# Altium schematic symbol library LAUNCHXL-F28379D_REV2.0.SCHLIB: 46 symbols
Pins are listed as number, name and electrical type; pins without a type are passive.

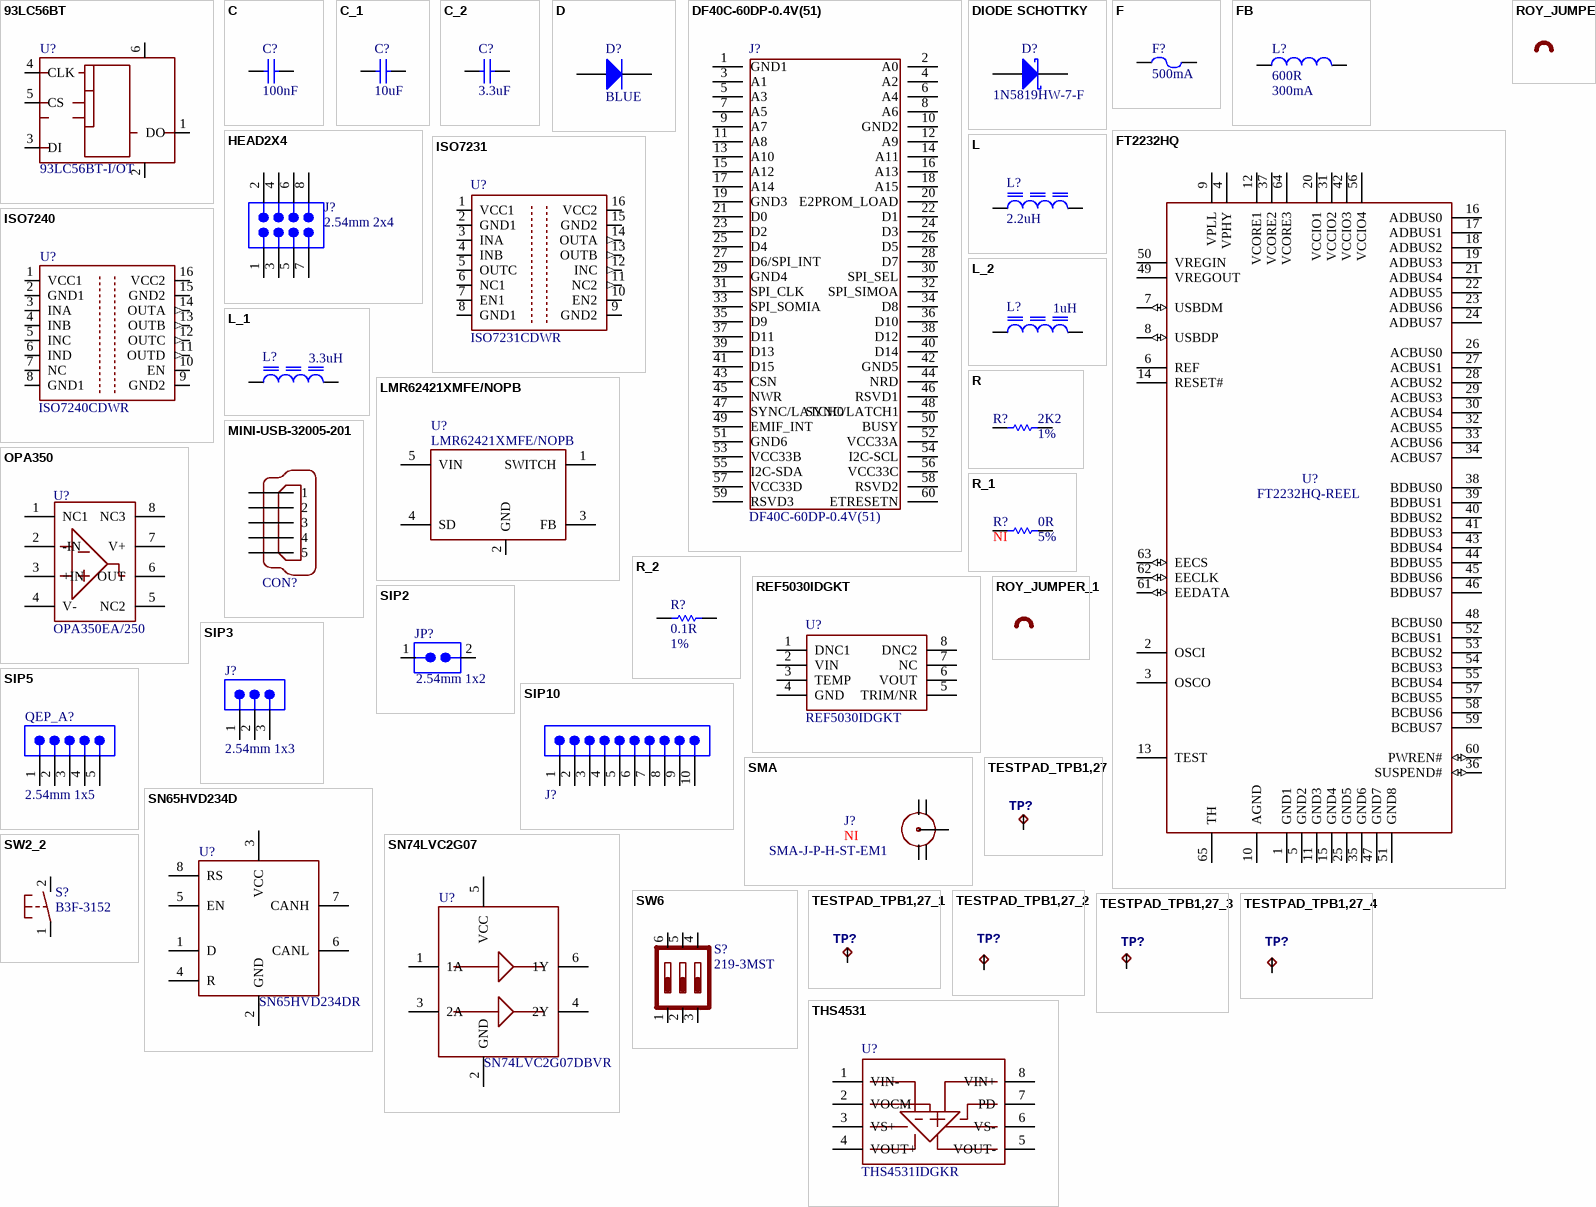
[diagram p0: symbols 93LC56BT to THS4531]

## 93LC56BT
designator U?, comment 93LC56BT-I/OT
IC,EEPROM Serial-Microwire 2K-Bit 128 x 16 2MHz,93LC56BT-I/OT,SOT-23-6,SMD; Manufacturer: MICROCHIP; Embest PN: 1002003100163; Part Type: Memory; Manufacturer Part Number: 93LC56BT-I/OT; Value: 93LC56BT-I/OT
footprint SOT23-6
pins: 1 DO (hiz), 2 GND (power), 3 DI, 4 CLK, 5 CS, 6 VCC (power)

## C
designator C?, comment 100nF
CAP,100NF(0.1uf),+/-10%,X5R,10V,SMD0402; Manufacturer: MURATA; Manufacturer Part Number: GRM155R61A104KA01D; Embest PN: 1004001100187; Rating: 10%; Value: 100nF; Part Type: Ceramic Capacitor
footprint C0402
pins: 1, 2
1 alternate drawing of the same symbol

## C_1
designator C?, comment 10uF
CAP,10UF,+/-10%,X7R,25V,SMD1210; Manufacturer: MURATA; Manufacturer Part Number: GRM32DR71E106KA12L; Embest PN: 1004001100183; Rating: 10%; Value: 10uF; Part Type: Ceramic Capacitor
footprint C1210
pins: 1, 2
1 alternate drawing of the same symbol

## C_2
designator C?, comment 3.3uF
CAP,3.3uF,+/-10%,X5R,10V,SMD0603; Manufacturer: MURATA; Manufacturer Part Number: GRM188R61A335KE15D; Embest PN: 1004001100252; Rating: 10%; Value: 3.3uF; Part Type: Ceramic Capacitor
footprint C0603
pins: 1, 2
1 alternate drawing of the same symbol

## D
designator D?, comment value BLUE  (hidden comment: 150080BS75000)
LED, BLUE ,470NM, 30mA,SMD,0805; Manufacturer: WURTH; Embest PN: 1006001100167; Part Type: LED; Manufacturer Part Number: 150080BS75000
footprint D0805
pins: 1, 2

## DF40C-60DP-0.4V(51)
designator J?
CONN HDR 60POS 0.4MM SMD GOLD TR; Manufacturer: HIROSE; Embest PN: 1009015100039; Value: DF40C-60DP-0.4V(51); Part Type: BTB Connector; Manufacturer Part Number: DF40C-60DP-0.4V(51)
footprint BTB60P40_2X30_1152X297X114P
pins: 1 GND1, 2 A0, 3 A1, 4 A2, 5 A3, 6 A4, 7 A5, 8 A6, 9 A7, 10 GND2, 11 A8, 12 A9, 13 A10, 14 A11, 15 A12, 16 A13, 17 A14, 18 A15, 19 GND3, 20 E2PROM_LOAD, 21 D0, 22 D1, 23 D2, 24 D3, 25 D4, 26 D5, 27 D6/SPI_INT, 28 D7, 29 GND4, 30 SPI_SEL, 31 SPI_CLK, 32 SPI_SIMOA, 33 SPI_SOMIA, 34 D8, 35 D9, 36 D10, 37 D11, 38 D12, 39 D13, 40 D14, 41 D15, 42 GND5, 43 CSN, 44 NRD, 45 NWR, 46 RSVD1, 47 SYNC/LATCH0, 48 SYNC/LATCH1, 49 EMIF_INT, 50 BUSY, 51 GND6, 52 VCC33A (power), 53 VCC33B (power), 54 I2C-SCL, 55 I2C-SDA, 56 VCC33C, 57 VCC33D, 58 RSVD2, 59 RSVD3, 60 ETRESETN

## DIODE SCHOTTKY
designator D?, comment 1N5819HW-7-F
Diode,Schottky Diode,1N5819HW-7-F,40V,1A,SOD-123,SMD,-65~125,TR; Manufacturer: DIODES; Embest PN: 1006002100003; Value: 1N5819HW-7-F; Part Type: Diode; Rating: 1A; Manufacturer Part Number: 1N5819HW-7-F
footprint SOD-123
pins: 1, 2

## F
designator F?, comment value 500mA  (hidden comment: MF-MSMF050-2)
PTC RESETTABLE .50A 15V 1812; Manufacturer: BOURNS; Embest PN: 1007001100029; Part Type: Polyswitch; Manufacturer Part Number: MF-MSMF050-2
footprint FUSM4632X85N
pins: 1, 2
1 alternate drawing of the same symbol

## FB
designator L?, comment Rating: 300mA  (hidden comment: 600R)
Ferrite Bead,600ohm@100MHz,+/-25%,300mA,0.6ohm,SMD0402; Manufacturer: MURATA; Manufacturer Part Number: BLM15AG601SN1D; Embest PN: 1005005100003; Value: 600R; Part Type: Ferrite Bead
footprint L0402
pins: 1, 2

## FT2232HQ
designator U?, comment FT2232HQ-REEL
IC,Dual High Speed USB to Multipurpose UART/FIFO IC,FT2232HQ-REEL,QFN-64,SMD; Manufacturer: FTDI; Embest PN: 1002010100084; Value: FT2232HQ-REEL; Part Type: Interface; Manufacturer Part Number: FT2232HQ-REEL
footprint QFN50P900X900X100_HS-65N
pins: 1 GND1 (power), 2 OSCI, 3 OSCO, 4 VPHY, 5 GND2 (power), 6 REF, 7 USBDM (io), 8 USBDP (io), 9 VPLL, 10 AGND (power), 11 GND3 (power), 12 VCORE1 (power), 13 TEST (power), 14 RESET#, 15 GND4 (power), 16 ADBUS0, 17 ADBUS1, 18 ADBUS2, 19 ADBUS3, 20 VCCIO1 (power), 21 ADBUS4, 22 ADBUS5, 23 ADBUS6, 24 ADBUS7, 25 GND5 (power), 26 ACBUS0, 27 ACBUS1, 28 ACBUS2, 29 ACBUS3, 30 ACBUS4, 31 VCCIO2 (power), 32 ACBUS5, 33 ACBUS6, 34 ACBUS7, 35 GND6 (power), 36 SUSPEND# (io), 37 VCORE2 (power), 38 BDBUS0, 39 BDBUS1, 40 BDBUS2, 41 BDBUS3, 42 VCCIO3 (power), 43 BDBUS4, 44 BDBUS5, 45 BDBUS6, 46 BDBUS7, 47 GND7 (power), 48 BCBUS0, 49 VREGOUT (power), 50 VREGIN (power), 51 GND8 (power), 52 BCBUS1, 53 BCBUS2, 54 BCBUS3, 55 BCBUS4, 56 VCCIO4 (power), 57 BCBUS5, 58 BCBUS6, 59 BCBUS7, 60 PWREN# (io), 61 EEDATA (io), 62 EECLK (io), 63 EECS (io), 64 VCORE3 (power), 65 TH (power)

## HEAD2X4
designator J?, comment value 2.54mm 2x4  (hidden comment: P101-2*04SGF-116A-NX)
Connector,Pin Header,Straight,Male,2x4Pin,2.54MM pitch,6.06,3.00,Gold Flash 1u, black,DIP; Manufacturer: TOWNES; Embest PN: 1009001200025; Part Type: Pin Header; Manufacturer Part Number: P101-2*04SGF-116A-NX
footprint HDRV8W64P254_2X4_1016X500X854P
pins: 1, 2, 3, 4, 5, 6, 7, 8

## ISO7231
designator U?, comment ISO7231CDWR
IC DGTL ISO 3CH CMOS 16SOIC,CUSTOMER SUPPLY; Manufacturer: TI; Embest PN: 1002017100003C; Value: ISO7231CDWR; Part Type: Isolator; Manufacturer Part Number: ISO7231CDWR
footprint SOIC127P1030X265-16N
pins: 1 VCC1 (power), 2 GND1 (power), 3 INA, 4 INB, 5 OUTC, 6 NC1, 7 EN1, 8 GND1 (power), 9 GND2 (power), 10 EN2, 11 NC2 (out), 12 INC (out), 13 OUTB (out), 14 OUTA (out), 15 GND2 (power), 16 VCC2 (power)

## ISO7240
designator U?, comment ISO7240CDWR
IC DGTL ISO 4CH CMOS 16SOIC,CUSTOMER SUPPLY; Manufacturer: TI; Embest PN: 1002017100004C; Value: ISO7240CDWR; Part Type: Isolator; Manufacturer Part Number: ISO7240CDWR
footprint SOIC127P1030X265-16N
pins: 1 VCC1 (power), 2 GND1 (power), 3 INA, 4 INB, 5 INC, 6 IND, 7 NC, 8 GND1 (power), 9 GND2 (power), 10 EN, 11 OUTD (out), 12 OUTC (out), 13 OUTB (out), 14 OUTA (out), 15 GND2 (power), 16 VCC2 (power)

## L
designator L?, comment 2.2uH
Power Inductor,Magnetic shielded,2.2uH,1.6A,0.06ohm,3.0X3.0X1.8mm,SMD; Manufacturer: SUMIDA; Manufacturer Part Number: CDRH2D18/HPNP-2R2NC; Embest PN: 1005004100011; Value: 2.2uH; Part Type: Inductor; Rating: 1.6A
footprint INDC300X300X180N
pins: 1, 2

## L_1
designator L?, comment 3.3uH
Power Inductor,Magnetic shielded,3.3uH,1.4A,0.085ohm,3.8X3.8X1.6mm,SMD; Manufacturer: SUMIDA; Manufacturer Part Number: CDRH3D16/HPNP-3R3NC; Embest PN: 1005004100014; Value: 3.3uH; Part Type: Inductor; Rating: 1.4A
footprint INDC380X380X165N
pins: 1, 2

## L_2
designator L?, comment 1uH
FIXED IND 1UH 1.62A 40 MOHM SMD,+/-30%; Manufacturer: MURATA; Manufacturer Part Number: LQH3NPN1R0NJ0L; Embest PN: 1005001100053; Value: 1uH; Part Type: Inductor; Rating: 1.62A
footprint INDC3030X12N
pins: 1, 2

## LMR62421XMFE/NOPB
designator U?
Conv DC-DC Single Step Up 2.7V to 5.5V 5-Pin SOT-23 T/R ,CUSTOMER SUPPLY; Manufacturer: TI; Embest PN: 1002005100073C; Value: LMR62421XMFE/NOPB; Part Type: DC-DC; Manufacturer Part Number: LMR62421XMFE/NOPB
footprint SOT23-5
pins: 1 SWITCH, 2 GND, 3 FB, 4 SD, 5 VIN

## MINI-USB-32005-201
designator CON?, comment 897-43-005-00-100001  (value not drawn)
Connector,MiniUSB B port,5 position,Right Angle,Gold flash 30u,black,SMD; Manufacturer: MILL-MAX; Embest PN: 1009007100067; Value: 897-43-005-00-100001; Part Type: USB Connector; Manufacturer Part Number: 897-43-005-00-100001
footprint USB-MINI-B-5P-SMD
pins: 1, 2, 3, 4, 5

## OPA350
designator U?, comment OPA350EA/250
IC OPAMP GP 38MHZ RRO 8VSSOP T/R; Manufacturer: TI; Embest PN: 1002007100063C; Value: OPA350EA/250; Part Type: Amplifier; Manufacturer Part Number: OPA350EA/250
footprint VSSOP65P490X110-8N
pins: 1 NC1, 2 -IN, 3 +IN, 4 V-, 5 NC2, 6 OUT, 7 V+, 8 NC3

## R
designator R?, comment Rating: 1%  (hidden comment: 2K2)
RES,2K2,+/-1%,1/16W,SMD0402; Manufacturer: YAGEO; Manufacturer Part Number: RC0402FR-072K2L; Embest PN: 1003001100045; Value: 2K2; Part Type: Thick film Resistor
footprint R0402
pins: 1, 2
1 alternate drawing of the same symbol

## R_1
designator R?, comment Rating: 5%  ASSY: NI  (hidden comment: 0R)
RES,0R,+/-5%,1/2W,SMD1206; Manufacturer: YAGEO; Manufacturer Part Number: RC1206JR-7W0RL; Embest PN: 1003001100325; Value: 0R; Part Type: Thick film Resistor
footprint R1206
pins: 1, 2
1 alternate drawing of the same symbol

## R_2
designator R?, comment Rating: 1%  (hidden comment: 0.1R)
RES,0R1,+/-1%,1/10W,SMD0603; Manufacturer: YAGEO; Manufacturer Part Number: RL0603FR-070R1L; Embest PN: 1003001100162; Value: 0.1R; Part Type: Thick film Resistor
footprint R0603
pins: 1, 2
1 alternate drawing of the same symbol

## REF5030IDGKT
designator U?
IC ，V-Ref Precision 3V 10mA 8-Pin VSSOP T/R; Manufacturer: TI; Embest PN: 1002004100186C; Value: REF5030IDGKT; Part Type: Power Management; Manufacturer Part Number: REF5030IDGKT
footprint VSSOP65P490X110-8N
pins: 1 DNC1, 2 VIN, 3 TEMP, 4 GND, 5 TRIM/NR, 6 VOUT, 7 NC, 8 DNC2

## ROY_JUMPER
designator U$?  (value not drawn)
footprint ROY_JUMPER

## ROY_JUMPER_1
designator U$?, comment ROY_JUMPER  (value not drawn)
footprint ROY_JUMPER

## SIP2
designator JP?, comment value 2.54mm 1x2  (hidden comment: P6E02A-602530-B1)
Connector,Pin Header,Straight,Male,1x2Pin,2.54MM pitch,6.00,3.00,Gold Flash 1u, black,DIP,alt_code:15071705; Manufacturer: CHIN-BAN; Embest PN: 1009001200003; Part Type: Pin Header; Manufacturer Part Number: P6E02A-602530-B1
footprint HDRV2W64P254_1X2_508X250X850P
pins: 1, 2

## SIP3
designator J?, comment value 2.54mm 1x3  (hidden comment: P6E03A-602530-B1)
Connector,Pin Header,Straight,Male,1x3Pin,2.54MM pitch,6.00,3.00,Gold Flash 1u, black,DIP,alt_code:15071706; Manufacturer: CHIN-BAN; Embest PN: 1009001200009; Part Type: Pin Header; Manufacturer Part Number: P6E03A-602530-B1
footprint HDRV3W64P254_1X3_762X250X850P
pins: 1, 2, 3

## SIP5
designator QEP_A?, comment value 2.54mm 1x5  (hidden comment: P101-1*05SGF-116A-NX)
Connector,Pin Header,Straight,Male,1x5Pin,2.54MM pitch,6.06,3.00,Gold Flash 1u, black,DIP; Manufacturer: TOWNES; Embest PN: 1009001200016; Part Type: Pin Header; Manufacturer Part Number: P101-1*05SGF-116A-NX
footprint HDRV5W64P254_1X5_1270X250X850P
pins: 1, 2, 3, 4, 5

## SIP10
designator J?, comment FH2543-10GT10  (value not drawn)
Connector,Pin Socket,Straight,Female,1x10Pin,2.54MM pitch,8.5,3.2,Gold Flash 1u,black,DIP; Manufacturer: MTCONN; Embest PN: 1009002200006; Value: 2.54mm 1x10; Part Type: Pin Socket; Manufacturer Part Number: FH2543-10GT10
footprint SOKV2W64P254_1X10_2590X250X850P
pins: 1, 2, 3, 4, 5, 6, 7, 8, 9, 10

## SMA
designator J?, comment ASSY: NI  (hidden comment: SMA-J-P-H-ST-EM1)
RF Connector,SMA Jack, Edge Mount, Gold, Straight, 50Ω,SMD,Tray; Manufacturer: SAMTEC; Embest PN: 1009019100017; Value: SMA-J-P-H-ST-EM1; Part Type: RF Connector; Manufacturer Part Number: SMA-J-P-H-ST-EM1
footprint SMA_EM
pins: 1, 2, 3, 4, 5

## SN65HVD234D
designator U?, comment SN65HVD234DR
IC CAN TRANSCEIVER 3.3V 8-SOIC; Manufacturer: TI; Embest PN: 1002010100117C; Value: SN65HVD234DR; Part Type: Interface; Manufacturer Part Number: SN65HVD234DR
footprint SOIC127P600X175-8N
pins: 1 D, 2 GND, 3 VCC, 4 R, 5 EN, 6 CANL, 7 CANH, 8 RS

## SN74LVC2G07
designator U?, comment SN74LVC2G07DBVR
Buffer/Driver 2-CH Non-Inverting Open Drain CMOS 6-Pin SOT-23 T/R,CUSTOMER SUPPLY; Manufacturer: TI; Embest PN: 1002008100102C; Value: SN74LVC2G07DBVR; Part Type: Logic; Manufacturer Part Number: SN74LVC2G07DBVR
footprint SOT23-6
pins: 1 1A, 2 GND, 3 2A, 4 2Y, 5 VCC, 6 1Y

## SW2_2
designator S?, comment B3F-3152
SWITCH TACTILE SPST-NO 0.05A 24V; Manufacturer: OMRON; Embest PN: 1010001200049; Value: B3F-3152; Part Type: Tactile Switch; Manufacturer Part Number: B3F-3152
footprint SW4P730X625
pins: 1 P, 2 S

## SW6
designator S?, comment 219-3MST
Switch, DIP Switches,3 Position,2.54MM Pitch,black housing,white plunger,SMD; Manufacturer: CTS; Embest PN: 1010003100003; Value: 219-3MST; Part Type: DIP Switch; Manufacturer Part Number: 219-3MST
footprint SW254P990X385-6N
pins: 1, 2, 3, 4, 5, 6

## TESTPAD_TPB1,27
designator TP?  (value not drawn)
Test pad
footprint TESTPAD_B1,27
pins: TP

## TESTPAD_TPB1,27_1
designator TP?, comment TESTPAD_TPB1,27  (value not drawn)
Test pad
footprint TESTPAD_B1,27
pins: TP

## TESTPAD_TPB1,27_2
designator TP?, comment TESTPAD_TPB1,27  (value not drawn)
Test pad
footprint TESTPAD_B1,27
pins: TP

## TESTPAD_TPB1,27_3
designator TP?, comment TESTPAD_TPB1,27  (value not drawn)
Test pad
footprint TESTPAD_B1,27
pins: TP

## TESTPAD_TPB1,27_4
designator TP?, comment TESTPAD_TPB1,27  (value not drawn)
Test pad
footprint TESTPAD_B1,27
pins: TP

## THS4531
designator U?, comment THS4531IDGKR
IC OPAMP DIFF 27MHZ RRO 8VSSOP TR; Manufacturer: TI; Embest PN: 1002007100055C; Value: THS4531IDGKR; Part Type: Amplifier; Manufacturer Part Number: THS4531IDGKR
footprint VSSOP65P490X110-8N
pins: 1 VIN-, 2 VOCM, 3 VS+, 4 VOUT+, 5 VOUT-, 6 VS-, 7 PD, 8 VIN+

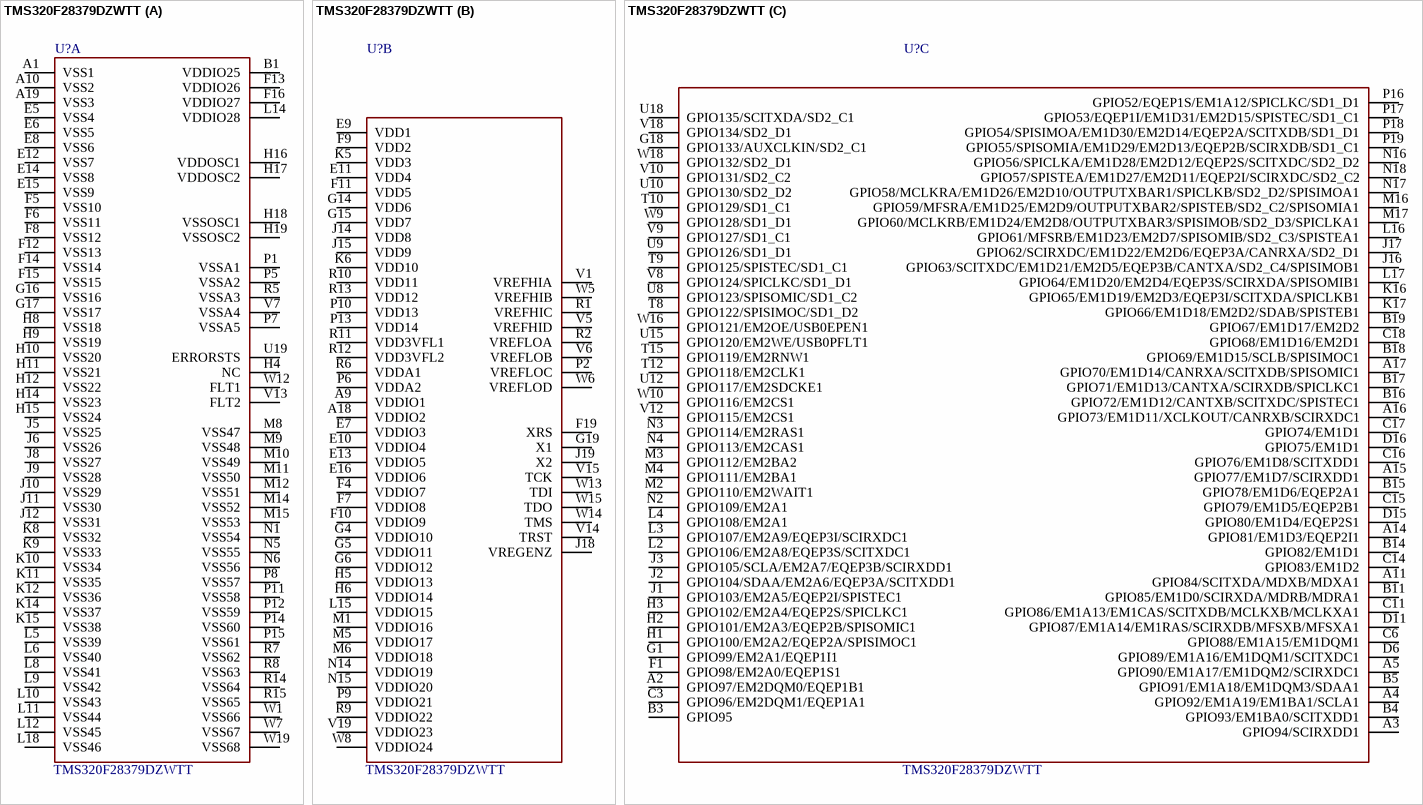
[diagram p1: symbol TMS320F28379DZWTT]

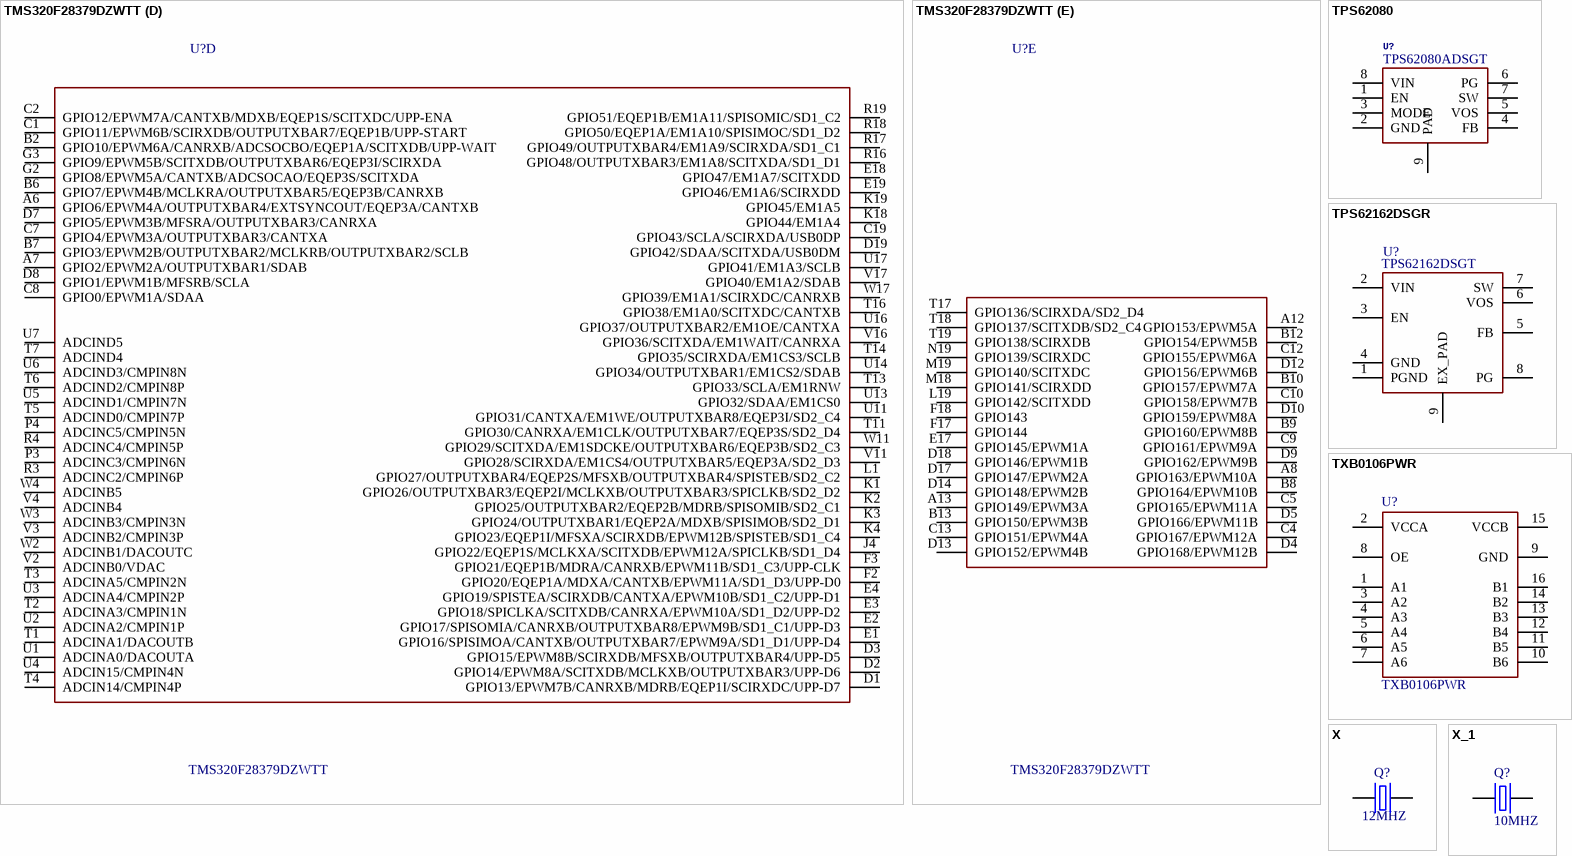
[diagram p2: symbols TMS320F28379DZWTT to X_1]

## TMS320F28379DZWTT
designator U?
IC, MCU 32BIT 1024KB,TMS320F28379DZWTT,BGA-337,SMD,customer supply; Manufacturer: TI; Embest PN: 1002002100202C; Value: TMS320F28379DZWTT; Part Type: MCU; Manufacturer Part Number: TMS320F28379DZWTT
footprint BGA337C80P19X19_1600X1600X140
part A pins: A1 VSS1, A10 VSS2, A19 VSS3, B1 VDDIO25, E5 VSS4, E6 VSS5, E8 VSS6, E12 VSS7, E14 VSS8, E15 VSS9, F5 VSS10, F6 VSS11, F8 VSS12, F12 VSS13, F13 VDDIO26, F14 VSS14, F15 VSS15, F16 VDDIO27, G16 VSS16, G17 VSS17, H4 NC, H8 VSS18, H9 VSS19, H10 VSS20, H11 VSS21, H12 VSS22, H14 VSS23, H15 VSS24, H16 VDDOSC1, H17 VDDOSC2, H18 VSSOSC1, H19 VSSOSC2, J5 VSS25, J6 VSS26, J8 VSS27, J9 VSS28, J10 VSS29, J11 VSS30, J12 VSS31, K8 VSS32, K9 VSS33, K10 VSS34, K11 VSS35, K12 VSS36, K14 VSS37, K15 VSS38, L5 VSS39, L6 VSS40, L8 VSS41, L9 VSS42, L10 VSS43, L11 VSS44, L12 VSS45, L14 VDDIO28, L18 VSS46, M8 VSS47, M9 VSS48, M10 VSS49, M11 VSS50, M12 VSS51, M14 VSS52, M15 VSS53, N1 VSS54, N5 VSS55, N6 VSS56, P1 VSSA1, P5 VSSA2, P7 VSSA5, P8 VSS57, P11 VSS58, P12 VSS59, P14 VSS60, P15 VSS61, R5 VSSA3, R7 VSS62, R8 VSS63, R14 VSS64, R15 VSS65, U19 ERRORSTS, V7 VSSA4, V13 FLT2, W1 VSS66, W7 VSS67, W12 FLT1, W19 VSS68
part B pins: A9 VDDIO1, A18 VDDIO2, E7 VDDIO3, E9 VDD1, E10 VDDIO4, E11 VDD4, E13 VDDIO5, E16 VDDIO6, F4 VDDIO7, F7 VDDIO8, F9 VDD2, F10 VDDIO9, F11 VDD5, F19 XRS, G4 VDDIO10, G5 VDDIO11, G6 VDDIO12, G14 VDD6, G15 VDD7, G19 X1, H5 VDDIO13, H6 VDDIO14, J14 VDD8, J15 VDD9, J18 VREGENZ, J19 X2, K5 VDD3, K6 VDD10, L15 VDDIO15, M1 VDDIO16, M5 VDDIO17, M6 VDDIO18, N14 VDDIO19, N15 VDDIO20, P2 VREFLOC, P6 VDDA2, P9 VDDIO21, P10 VDD13, P13 VDD14, R1 VREFHIC, R2 VREFLOA, R6 VDDA1, R9 VDDIO22, R10 VDD11, R11 VDD3VFL1, R12 VDD3VFL2, R13 VDD12, V1 VREFHIA, V5 VREFHID, V6 VREFLOB, V14 TRST, V15 TCK, V19 VDDIO23, W5 VREFHIB, W6 VREFLOD, W8 VDDIO24, W13 TDI, W14 TMS, W15 TDO
part C pins: A2 GPIO97/EM2DQM0/EQEP1B1, A3 GPIO94/SCIRXDD1, A4 GPIO92/EM1A19/EM1BA1/SCLA1, A5 GPIO90/EM1A17/EM1DQM2/SCIRXDC1, A11 GPIO84/SCITXDA/MDXB/MDXA1, A14 GPIO81/EM1D3/EQEP2I1, A15 GPIO77/EM1D7/SCIRXDD1, A16 GPIO73/EM1D11/XCLKOUT/CANRXB/SCIRXDC1, A17 GPIO70/EM1D14/CANRXA/SCITXDB/SPISOMIC1, B3 GPIO95, B4 GPIO93/EM1BA0/SCITXDD1, B5 GPIO91/EM1A18/EM1DQM3/SDAA1, B11 GPIO85/EM1D0/SCIRXDA/MDRB/MDRA1, B14 GPIO82/EM1D1, B15 GPIO78/EM1D6/EQEP2A1, B16 GPIO72/EM1D12/CANTXB/SCITXDC/SPISTEC1, B17 GPIO71/EM1D13/CANTXA/SCIRXDB/SPICLKC1, B18 GPIO69/EM1D15/SCLB/SPISIMOC1, B19 GPIO67/EM1D17/EM2D2, C3 GPIO96/EM2DQM1/EQEP1A1, C6 GPIO88/EM1A15/EM1DQM1, C11 GPIO86/EM1A13/EM1CAS/SCITXDB/MCLKXB/MCLKXA1, C14 GPIO83/EM1D2, C15 GPIO79/EM1D5/EQEP2B1, C16 GPIO76/EM1D8/SCITXDD1, C17 GPIO74/EM1D1, C18 GPIO68/EM1D16/EM2D1, D6 GPIO89/EM1A16/EM1DQM1/SCITXDC1, D11 GPIO87/EM1A14/EM1RAS/SCIRXDB/MFSXB/MFSXA1, D15 GPIO80/EM1D4/EQEP2S1, D16 GPIO75/EM1D1, F1 GPIO98/EM2A0/EQEP1S1, G1 GPIO99/EM2A1/EQEP1I1, G18 GPIO133/AUXCLKIN/SD2_C1, H1 GPIO100/EM2A2/EQEP2A/SPISIMOC1, H2 GPIO101/EM2A3/EQEP2B/SPISOMIC1, H3 GPIO102/EM2A4/EQEP2S/SPICLKC1, J1 GPIO103/EM2A5/EQEP2I/SPISTEC1, J2 GPIO104/SDAA/EM2A6/EQEP3A/SCITXDD1, J3 GPIO105/SCLA/EM2A7/EQEP3B/SCIRXDD1, J16 GPIO63/SCITXDC/EM1D21/EM2D5/EQEP3B/CANTXA/SD2_C4/SPISIMOB1, J17 GPIO62/SCIRXDC/EM1D22/EM2D6/EQEP3A/CANRXA/SD2_D1, K16 GPIO65/EM1D19/EM2D3/EQEP3I/SCITXDA/SPICLKB1, K17 GPIO66/EM1D18/EM2D2/SDAB/SPISTEB1, L2 GPIO106/EM2A8/EQEP3S/SCITXDC1, L3 GPIO107/EM2A9/EQEP3I/SCIRXDC1, L4 GPIO108/EM2A1, L16 GPIO61/MFSRB/EM1D23/EM2D7/SPISOMIB/SD2_C3/SPISTEA1, L17 GPIO64/EM1D20/EM2D4/EQEP3S/SCIRXDA/SPISOMIB1, M2 GPIO110/EM2WAIT1, M3 GPIO112/EM2BA2, M4 GPIO111/EM2BA1, M16 GPIO59/MFSRA/EM1D25/EM2D9/OUTPUTXBAR2/SPISTEB/SD2_C2/SPISOMIA1, M17 GPIO60/MCLKRB/EM1D24/EM2D8/OUTPUTXBAR3/SPISIMOB/SD2_D3/SPICLKA1, N2 GPIO109/EM2A1, N3 GPIO114/EM2RAS1, N4 GPIO113/EM2CAS1, N16 GPIO56/SPICLKA/EM1D28/EM2D12/EQEP2S/SCITXDC/SD2_D2, N17 GPIO58/MCLKRA/EM1D26/EM2D10/OUTPUTXBAR1/SPICLKB/SD2_D2/SPISIMOA1, N18 GPIO57/SPISTEA/EM1D27/EM2D11/EQEP2I/SCIRXDC/SD2_C2, P16 GPIO52/EQEP1S/EM1A12/SPICLKC/SD1_D1, P17 GPIO53/EQEP1I/EM1D31/EM2D15/SPISTEC/SD1_C1, P18 GPIO54/SPISIMOA/EM1D30/EM2D14/EQEP2A/SCITXDB/SD1_D1, P19 GPIO55/SPISOMIA/EM1D29/EM2D13/EQEP2B/SCIRXDB/SD1_C1, T8 GPIO122/SPISIMOC/SD1_D2, T9 GPIO125/SPISTEC/SD1_C1, T10 GPIO129/SD1_C1, T12 GPIO118/EM2CLK1, T15 GPIO119/EM2RNW1, U8 GPIO123/SPISOMIC/SD1_C2, U9 GPIO126/SD1_D1, U10 GPIO130/SD2_D2, U12 GPIO117/EM2SDCKE1, U15 GPIO120/EM2WE/USB0PFLT1, U18 GPIO135/SCITXDA/SD2_C1, V8 GPIO124/SPICLKC/SD1_D1, V9 GPIO127/SD1_C1, V10 GPIO131/SD2_C2, V12 GPIO115/EM2CS1, V18 GPIO134/SD2_D1, W9 GPIO128/SD1_D1, W10 GPIO116/EM2CS1, W16 GPIO121/EM2OE/USB0EPEN1, W18 GPIO132/SD2_D1
part D pins: A6 GPIO6/EPWM4A/OUTPUTXBAR4/EXTSYNCOUT/EQEP3A/CANTXB, A7 GPIO2/EPWM2A/OUTPUTXBAR1/SDAB, B2 GPIO10/EPWM6A/CANRXB/ADCSOCBO/EQEP1A/SCITXDB/UPP-WAIT, B6 GPIO7/EPWM4B/MCLKRA/OUTPUTXBAR5/EQEP3B/CANRXB, B7 GPIO3/EPWM2B/OUTPUTXBAR2/MCLKRB/OUTPUTXBAR2/SCLB, C1 GPIO11/EPWM6B/SCIRXDB/OUTPUTXBAR7/EQEP1B/UPP-START, C2 GPIO12/EPWM7A/CANTXB/MDXB/EQEP1S/SCITXDC/UPP-ENA, C7 GPIO4/EPWM3A/OUTPUTXBAR3/CANTXA, C8 GPIO0/EPWM1A/SDAA, C19 GPIO43/SCLA/SCIRXDA/USB0DP, D1 GPIO13/EPWM7B/CANRXB/MDRB/EQEP1I/SCIRXDC/UPP-D7, D2 GPIO14/EPWM8A/SCITXDB/MCLKXB/OUTPUTXBAR3/UPP-D6, D3 GPIO15/EPWM8B/SCIRXDB/MFSXB/OUTPUTXBAR4/UPP-D5, D7 GPIO5/EPWM3B/MFSRA/OUTPUTXBAR3/CANRXA, D8 GPIO1/EPWM1B/MFSRB/SCLA, D19 GPIO42/SDAA/SCITXDA/USB0DM, E1 GPIO16/SPISIMOA/CANTXB/OUTPUTXBAR7/EPWM9A/SD1_D1/UPP-D4, E2 GPIO17/SPISOMIA/CANRXB/OUTPUTXBAR8/EPWM9B/SD1_C1/UPP-D3, E3 GPIO18/SPICLKA/SCITXDB/CANRXA/EPWM10A/SD1_D2/UPP-D2, E4 GPIO19/SPISTEA/SCIRXDB/CANTXA/EPWM10B/SD1_C2/UPP-D1, E18 GPIO47/EM1A7/SCITXDD, E19 GPIO46/EM1A6/SCIRXDD, F2 GPIO20/EQEP1A/MDXA/CANTXB/EPWM11A/SD1_D3/UPP-D0, F3 GPIO21/EQEP1B/MDRA/CANRXB/EPWM11B/SD1_C3/UPP-CLK, G2 GPIO8/EPWM5A/CANTXB/ADCSOCAO/EQEP3S/SCITXDA, G3 GPIO9/EPWM5B/SCITXDB/OUTPUTXBAR6/EQEP3I/SCIRXDA, J4 GPIO22/EQEP1S/MCLKXA/SCITXDB/EPWM12A/SPICLKB/SD1_D4, K1 GPIO26/OUTPUTXBAR3/EQEP2I/MCLKXB/OUTPUTXBAR3/SPICLKB/SD2_D2, K2 GPIO25/OUTPUTXBAR2/EQEP2B/MDRB/SPISOMIB/SD2_C1, K3 GPIO24/OUTPUTXBAR1/EQEP2A/MDXB/SPISIMOB/SD2_D1, K4 GPIO23/EQEP1I/MFSXA/SCIRXDB/EPWM12B/SPISTEB/SD1_C4, K18 GPIO44/EM1A4, K19 GPIO45/EM1A5, L1 GPIO27/OUTPUTXBAR4/EQEP2S/MFSXB/OUTPUTXBAR4/SPISTEB/SD2_C2, P3 ADCINC3/CMPIN6N, P4 ADCINC5/CMPIN5N, R3 ADCINC2/CMPIN6P, R4 ADCINC4/CMPIN5P, R16 GPIO48/OUTPUTXBAR3/EM1A8/SCITXDA/SD1_D1, R17 GPIO49/OUTPUTXBAR4/EM1A9/SCIRXDA/SD1_C1, R18 GPIO50/EQEP1A/EM1A10/SPISIMOC/SD1_D2, R19 GPIO51/EQEP1B/EM1A11/SPISOMIC/SD1_C2, T1 ADCINA1/DACOUTB, T2 ADCINA3/CMPIN1N, T3 ADCINA5/CMPIN2N, T4 ADCIN14/CMPIN4P, T5 ADCIND0/CMPIN7P, T6 ADCIND2/CMPIN8P, T7 ADCIND4, T11 GPIO30/CANRXA/EM1CLK/OUTPUTXBAR7/EQEP3S/SD2_D4, T13 GPIO33/SCLA/EM1RNW, T14 GPIO35/SCIRXDA/EM1CS3/SCLB, T16 GPIO38/EM1A0/SCITXDC/CANTXB, U1 ADCINA0/DACOUTA, U2 ADCINA2/CMPIN1P, U3 ADCINA4/CMPIN2P, U4 ADCIN15/CMPIN4N, U5 ADCIND1/CMPIN7N, U6 ADCIND3/CMPIN8N, U7 ADCIND5, U11 GPIO31/CANTXA/EM1WE/OUTPUTXBAR8/EQEP3I/SD2_C4, U13 GPIO32/SDAA/EM1CS0, U14 GPIO34/OUTPUTXBAR1/EM1CS2/SDAB, U16 GPIO37/OUTPUTXBAR2/EM1OE/CANTXA, U17 GPIO41/EM1A3/SCLB, V2 ADCINB0/VDAC, V3 ADCINB2/CMPIN3P, V4 ADCINB4, V11 GPIO28/SCIRXDA/EM1CS4/OUTPUTXBAR5/EQEP3A/SD2_D3, V16 GPIO36/SCITXDA/EM1WAIT/CANRXA, V17 GPIO40/EM1A2/SDAB, W2 ADCINB1/DACOUTC, W3 ADCINB3/CMPIN3N, W4 ADCINB5, W11 GPIO29/SCITXDA/EM1SDCKE/OUTPUTXBAR6/EQEP3B/SD2_C3, W17 GPIO39/EM1A1/SCIRXDC/CANRXB
part E pins: A8 GPIO163/EPWM10A, A12 GPIO153/EPWM5A, A13 GPIO149/EPWM3A, B8 GPIO164/EPWM10B, B9 GPIO160/EPWM8B, B10 GPIO157/EPWM7A, B12 GPIO154/EPWM5B, B13 GPIO150/EPWM3B, C4 GPIO167/EPWM12A, C5 GPIO165/EPWM11A, C9 GPIO161/EPWM9A, C10 GPIO158/EPWM7B, C12 GPIO155/EPWM6A, C13 GPIO151/EPWM4A, D4 GPIO168/EPWM12B, D5 GPIO166/EPWM11B, D9 GPIO162/EPWM9B, D10 GPIO159/EPWM8A, D12 GPIO156/EPWM6B, D13 GPIO152/EPWM4B, D14 GPIO148/EPWM2B, D17 GPIO147/EPWM2A, D18 GPIO146/EPWM1B, E17 GPIO145/EPWM1A, F17 GPIO144, F18 GPIO143, L19 GPIO142/SCITXDD, M18 GPIO141/SCIRXDD, M19 GPIO140/SCITXDC, N19 GPIO139/SCIRXDC, T17 GPIO136/SCIRXDA/SD2_D4, T18 GPIO137/SCITXDB/SD2_C4, T19 GPIO138/SCIRXDB

## TPS62080
designator U?, comment TPS62080ADSGT
IC REG BUCK SYNC ADJ 1.2A 8WSON; Manufacturer: TI; Embest PN: 1002005100089C; Value: TPS62080ADSGT; Part Type: DC-DC; Manufacturer Part Number: TPS62080ADSGT
footprint WSON50P200X80_HS-9N
pins: 1 EN, 2 GND, 3 MODE, 4 FB, 5 VOS, 6 PG, 7 SW, 8 VIN, 9 PAD

## TPS62162DSGR
designator U?, comment TPS62162DSGT
IC REG BUCK SYNC 3.3V 1A 8WSON; Manufacturer: TI; Embest PN: 1002005100090C; Value: TPS62162DSGT; Part Type: DC-DC; Manufacturer Part Number: TPS62162DSGT
footprint WSON50P200X80_HS-9N
pins: 1 PGND, 2 VIN, 3 EN, 4 GND, 5 FB, 6 VOS, 7 SW, 8 PG, 9 EX_PAD

## TXB0106PWR
designator U?
IC, 6-BIT BIDIRECTIONAL VOLTAGE-LEVEL TRANSLATOR WITH AUTO-DIRECTION SENSING AND ±15-kV ESD PROTECTION, TXB0106PWR, TSSOP-16, SMD,Cusomer Supply; Manufacturer: TI; Embest PN: 1002008100038C; Value: TXB0106PWR; Part Type: Logic; Manufacturer Part Number: TXB0106PWR
footprint TSSOP65P640X120-16N
pins: 1 A1, 2 VCCA, 3 A2, 4 A3, 5 A4, 6 A5, 7 A6, 8 OE, 9 GND, 10 B6, 11 B5, 12 B4, 13 B3, 14 B2, 15 VCCB, 16 B1

## X
designator Q?, comment value 12MHZ  (hidden comment: ABLS2-12.000MHZ-D4Y-T)
Crystal 12MHz ±30ppm (Tol) ±30ppm (Stability) 18pF FUND 50Ohm 2-Pin HC-49/US SMD T/R; Manufacturer: ABRACON; Embest PN: 1008002100130; Part Type: Crystal; Manufacturer Part Number: ABLS2-12.000MHZ-D4Y-T
footprint XTAL1140X470X330N
pins: 1, 2

## X_1
designator Q?, comment value 10MHZ  (hidden comment: ATS100B-E)
Crystal 10.0000MHz 30ppm 18pF 60 Ohm -40°C - 85°C Through Hole HC49/US; Manufacturer: CTS; Embest PN: 1008002200125; Part Type: Crystal; Manufacturer Part Number: ATS100B-E
footprint OSC488P1105X465X350-2N
pins: 1, 2